# Altium schematic symbol library 2015-02-15_06-02-22.SchLib: 23 symbols
Pins are listed as number, name and electrical type; pins without a type are passive.

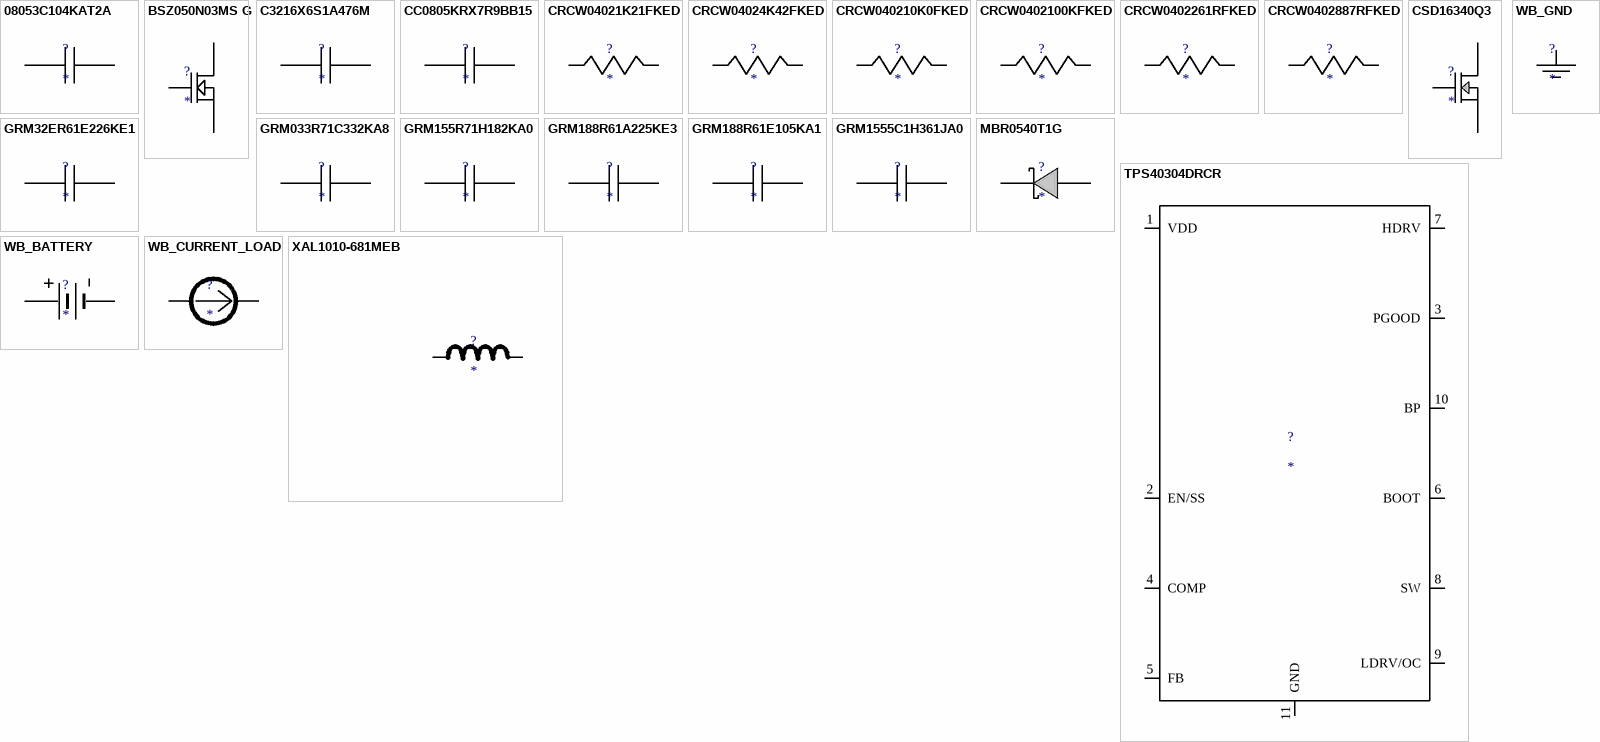
[diagram p0: symbols 08053C104KAT2A to XAL1010-681MEB]

## 08053C104KAT2A
designator ?
Imported; Manufacturer_Part_Number: 08053C104KAT2A; Vendor: AVX; Manufacturer_Name: AVX; RefDes: RefDes; TYPE: TYPE; Value: Value
footprint 0805
pins: 1, 2

## BSZ050N03MS G
designator ?
Imported; Manufacturer_Part_Number: BSZ050N03MS G; Vendor: Infineon Technologies; Manufacturer_Name: Infineon Technologies; RefDes: RefDes; TYPE: TYPE; Value: Value
footprint PG-TSDSON-8
pins: 1 Source, 2 Source, 3 Source, 4 Gate, 5 Drain, 6 Drain, 7 Drain, 8 Drain, 9 Drain

## C3216X6S1A476M
designator ?
Imported; Manufacturer_Part_Number: C3216X6S1A476M; Vendor: TDK; Manufacturer_Name: TDK; RefDes: RefDes; TYPE: TYPE; Value: Value
footprint 1206
pins: 1, 2

## CC0805KRX7R9BB15
designator ?
Imported; Manufacturer_Part_Number: CC0805KRX7R9BB153; Vendor: Yageo America; Manufacturer_Name: Yageo America; RefDes: RefDes; TYPE: TYPE; Value: Value
footprint 0805
pins: 1, 2

## CRCW04021K21FKED
designator ?
Imported; Manufacturer_Part_Number: CRCW04021K21FKED; Vendor: Vishay-Dale; Manufacturer_Name: Vishay-Dale; RefDes: RefDes; TYPE: TYPE; Value: Value
footprint 0402
pins: 1, 2

## CRCW04024K42FKED
designator ?
Imported; Manufacturer_Part_Number: CRCW04024K42FKED; Vendor: Vishay-Dale; Manufacturer_Name: Vishay-Dale; RefDes: RefDes; TYPE: TYPE; Value: Value
footprint 0402
pins: 1, 2

## CRCW040210K0FKED
designator ?
Imported; Manufacturer_Part_Number: CRCW040210K0FKED; Vendor: Vishay-Dale; Manufacturer_Name: Vishay-Dale; RefDes: RefDes; TYPE: TYPE; Value: Value
footprint 0402
pins: 1, 2

## CRCW0402100KFKED
designator ?
Imported; Manufacturer_Part_Number: CRCW0402100KFKED; Vendor: Vishay-Dale; Manufacturer_Name: Vishay-Dale; RefDes: RefDes; TYPE: TYPE; Value: Value
footprint 0402
pins: 1, 2

## CRCW0402261RFKED
designator ?
Imported; Manufacturer_Part_Number: CRCW0402261RFKED; Vendor: Vishay-Dale; Manufacturer_Name: Vishay-Dale; RefDes: RefDes; TYPE: TYPE; Value: Value
footprint 0402
pins: 1, 2

## CRCW0402887RFKED
designator ?
Imported; Manufacturer_Part_Number: CRCW0402887RFKED; Vendor: Vishay-Dale; Manufacturer_Name: Vishay-Dale; RefDes: RefDes; TYPE: TYPE; Value: Value
footprint 0402
pins: 1, 2

## CSD16340Q3
designator ?
Imported; Manufacturer_Part_Number: CSD16340Q3; Vendor: Texas Instruments; Manufacturer_Name: Texas Instruments; RefDes: RefDes; TYPE: TYPE; Value: Value
footprint TRANS_NexFET_Q3
pins: 1 Source, 2 Source, 3 Source, 4 Gate, 5 Drain, 6 Drain, 7 Drain, 8 Drain, 9 Drain

## GRM32ER61E226KE1
designator ?
Imported; Manufacturer_Part_Number: GRM32ER61E226KE15L; Vendor: MuRata; Manufacturer_Name: MuRata; RefDes: RefDes; TYPE: TYPE; Value: Value
footprint 1210
pins: 1, 2

## GRM033R71C332KA8
designator ?
Imported; Manufacturer_Part_Number: GRM033R71C332KA88D; Vendor: MuRata; Manufacturer_Name: MuRata; RefDes: RefDes; TYPE: TYPE; Value: Value
footprint 0201
pins: 1, 2

## GRM155R71H182KA0
designator ?
Imported; Manufacturer_Part_Number: GRM155R71H182KA01D; Vendor: MuRata; Manufacturer_Name: MuRata; RefDes: RefDes; TYPE: TYPE; Value: Value
footprint 0402
pins: 1, 2

## GRM188R61A225KE3
designator ?
Imported; Manufacturer_Part_Number: GRM188R61A225KE34D; Vendor: MuRata; Manufacturer_Name: MuRata; RefDes: RefDes; TYPE: TYPE; Value: Value
footprint 0603
pins: 1, 2

## GRM188R61E105KA1
designator ?
Imported; Manufacturer_Part_Number: GRM188R61E105KA12D; Vendor: MuRata; Manufacturer_Name: MuRata; RefDes: RefDes; TYPE: TYPE; Value: Value
footprint 0603
pins: 1, 2

## GRM1555C1H361JA0
designator ?
Imported; Manufacturer_Part_Number: GRM1555C1H361JA01D; Vendor: MuRata; Manufacturer_Name: MuRata; RefDes: RefDes; TYPE: TYPE; Value: Value
footprint 0402
pins: 1, 2

## MBR0540T1G
designator ?
Imported; Manufacturer_Part_Number: MBR0540T1G; Vendor: ON Semiconductor; Manufacturer_Name: ON Semiconductor; RefDes: RefDes; Type: Type; Value: Value
footprint SOD-123
pins: 1 K, 2 A

## TPS40304DRCR
designator ?
Imported; Manufacturer_Part_Number: TPS40304DRCR; Vendor: Texas Instruments; Manufacturer_Name: Texas Instruments; RefDes: RefDes; TYPE: TYPE; Value: Value
footprint S-PVSON-N10
pins: 1 VDD, 2 EN/SS, 3 PGOOD, 4 COMP, 5 FB, 6 BOOT, 7 HDRV, 8 SW, 9 LDRV/OC, 10 BP, 11 GND

## WB_BATTERY
designator ?
Imported; Manufacturer_Part_Number: WB_BATTERY; PowerPortType: POWER_GROUND; Value: Value; Manufacturer_Name: WB_BATTERY; RefDes: RefDes; TYPE: TYPE
pins: 1 +, 2 -

## WB_CURRENT_LOAD
designator ?
Imported; Manufacturer_Part_Number: WB_CURRENT_LOAD; PowerPortType: POWER_GROUND; Value: Value; Manufacturer_Name: WB_CURRENT_LOAD; RefDes: RefDes; TYPE: TYPE
pins: 1 +, 2 -

## WB_GND
designator ?
Imported; Manufacturer_Part_Number: WB_GND; PowerPortType: POWER_GROUND; Value: Value; Manufacturer_Name: WB_GND; RefDes: RefDes; TYPE: TYPE
pins: 1

## XAL1010-681MEB
designator ?
Imported; Manufacturer_Part_Number: XAL1010-451MEB; Vendor: Coilcraft; Manufacturer_Name: Coilcraft; RefDes: RefDes; TYPE: TYPE; Value: Value
footprint XAL1010
pins: 1, 2